# EAGLE library part IC_TPIC6B595N (library parts)
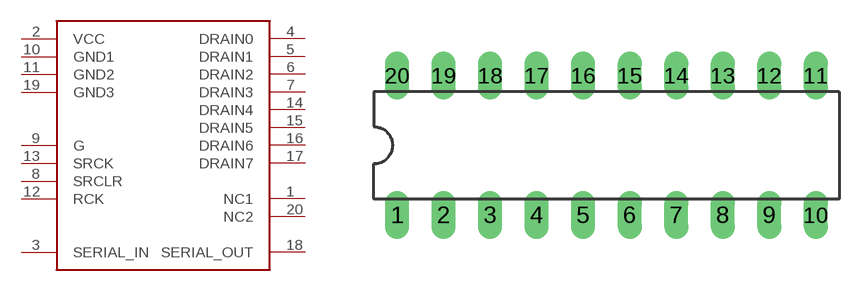
[diagram p1: symbol with the pads of CONN_DIL20; footprint CONN_DIL20]

Designator prefix IC

## IC_TPIC6B595N  [CONN_DIL20]
1  NC1  nc
2  VCC  pwr
3  SERIAL_IN
4  DRAIN0
5  DRAIN1
6  DRAIN2
7  DRAIN3
8  SRCLR
9  G
10  GND1  pwr
11  GND2  pwr
12  RCK
13  SRCK
14  DRAIN4
15  DRAIN5
16  DRAIN6
17  DRAIN7
18  SERIAL_OUT
19  GND3  pwr
20  NC2  nc

## Footprint CONN_DIL20 (pad centres in mm)
drill 0.813 long: 1 -11.43,-3.81; 2 -8.89,-3.81; 3 -6.35,-3.81; 4 -3.81,-3.81; 5 -1.27,-3.81; 6 1.27,-3.81; 7 3.81,-3.81; 8 6.35,-3.81; 9 8.89,-3.81; 10 11.43,-3.81; 11 11.43,3.81; 12 8.89,3.81; 13 6.35,3.81; 14 3.81,3.81; 15 1.27,3.81; 16 -1.27,3.81; 17 -3.81,3.81; 18 -6.35,3.81; 19 -8.89,3.81; 20 -11.43,3.81